# Altium footprint library 大风车.PcbLib: 9 footprints
Each footprint in its own frame and in the unit in brackets; x right, y up, seen from the top. Pads: shape width x height; smd on the part's side, far side on the other; paste and mask are expansions set on the pad; w line width, h text height; cw(c..) or ccw(c..) is an arc to the next point about the centre after c.
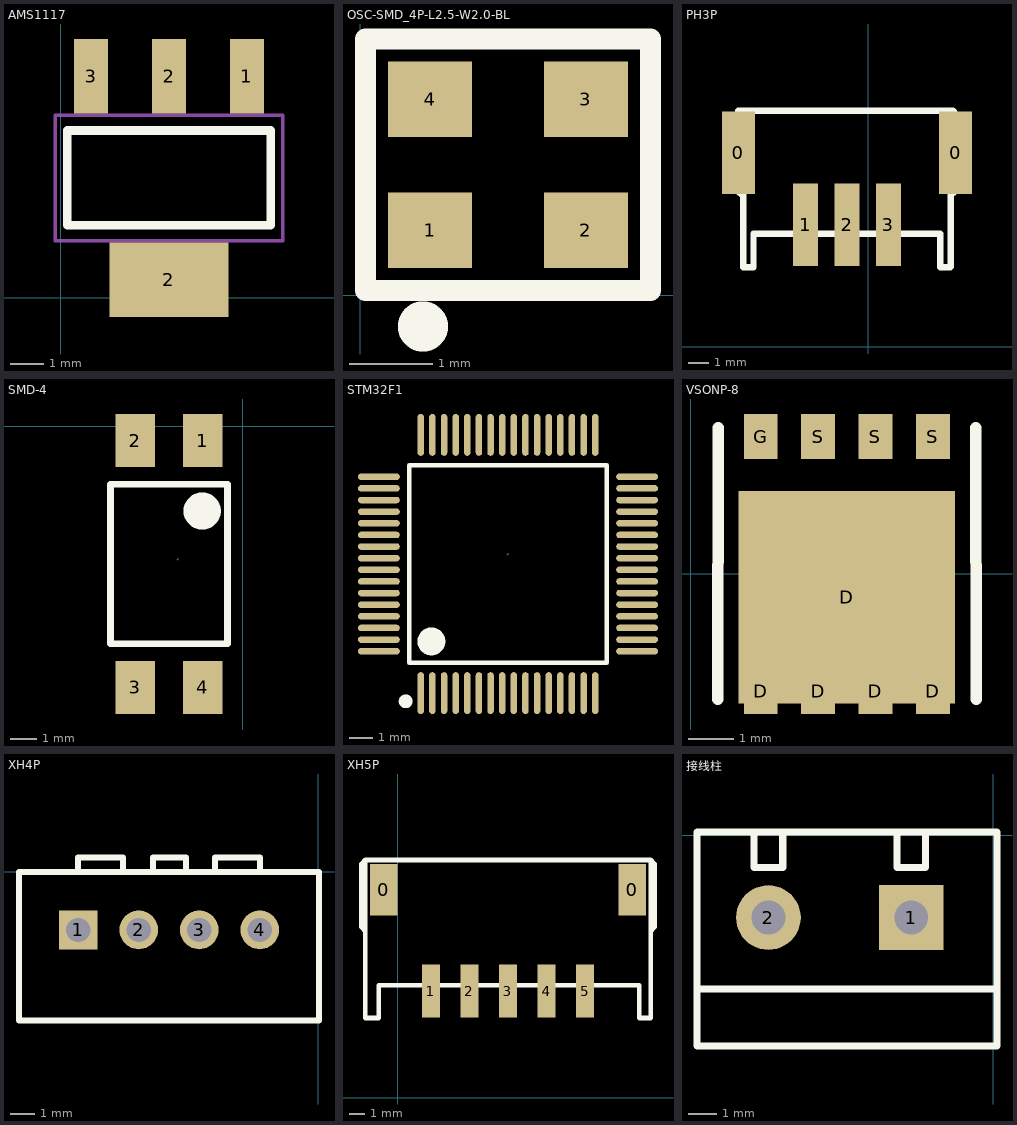
[diagram p0: the footprints below, top view; thin cyan lines are the x and y axes]

## AMS1117 [mm]
pads (4):
  rect 1x2.2 smd: 1(5.5,6.531) 2(3.2,6.531) 3(0.9,6.531)
  rect 3.5x2.2 smd: 2(3.2,0.531)
Top Overlay:
  lines w0.254: 0.2,2.131 0.2,4.931 6.2,4.931 6.2,2.131 0.2,2.131
Mechanical 13:
  lines w0.1: -0.15,1.681 -0.15,5.381 6.55,5.381 6.55,1.681 -0.15,1.681
3D body "TO-223.STEP": height 1.64, standoff -0.04, extent -0.042,0.041 6.443,7.021

## OSC-SMD_4P-L2.5-W2.0-BL [mm]
pads (4):
  rect 1x0.9 smd: 1(0.832,0.777) 2(2.692,0.777) 3(2.692,2.337) 4(0.832,2.337)
Top Overlay:
  lines w0.254: 0.062,0.057 0.062,3.057 3.462,3.057 3.462,0.057 0.062,0.057
  lines w0.3: 0.746,-0.221 ccw(c0.748,-0.371) 0.749,-0.221

## PH3P [mm]
pads (5):
  rect 1.6x4 smd: 0(-6.28,9.373) 0(4.216,9.373)
  rect 1.2x4 smd: 1(-3.032,5.893) 2(-1.032,5.893) 3(0.968,5.893)
Top Overlay:
  lines w0.305: -6.077,7.29 -6.28,7.493 -6.28,7.518 -6.28,11.405 -6.052,11.405 ; 3.988,7.315 4.166,7.493 4.166,11.328 4.089,11.405 3.988,11.405 ; -6.052,11.405 -6.052,3.835 -5.552,3.835 -5.552,5.456 3.48,5.456 3.48,3.835 3.962,3.835 3.988,3.861 3.988,11.405 ; -6.052,11.405 3.988,11.405
3D body "User Library-DS1066-04-3MSV6.STEP": height 6.5, standoff 0, extent -6.048,4.166 3.952,11.566

## SMD-4 [mm]
pads (4):
  rect 1.5x2 smd: 1(-1.502,-0.538) 2(-4.042,-0.538) 3(-4.042,-9.838) 4(-1.502,-9.838)
Top Overlay:
  lines w0.254: -4.972,-8.188 -0.572,-8.188 -0.572,-2.188 -4.972,-2.188 -4.972,-8.188
  lines w0.7: -1.172,-3.194 cw(c-1.522,-3.191) -1.172,-3.189
Mechanical 15:
  lines w0.003: -2.461,-5.022 -2.41,-4.971
3D body: height 3.7, standoff 0.2, extent -5.058,-8.412 -0.486,-2.062
3D body: height 0.8, standoff 0, extent -4.55,-1.3 -3.534,0.224
3D body: height 0.8, standoff 0, extent -2.01,-1.3 -0.994,0.224
3D body: height 0.8, standoff 0, extent -4.55,-10.698 -3.534,-9.174
3D body: height 0.8, standoff 0, extent -2.01,-10.698 -0.994,-9.174
3D body: height 3.2, standoff 0, extent -4.55,-1.3 -3.534,-0.792
3D body: height 3.2, standoff 0, extent -2.01,-1.3 -0.994,-0.792
3D body: height 3.2, standoff 0, extent -4.55,-9.682 -3.534,-9.174
3D body: height 3.2, standoff 0, extent -2.01,-9.682 -0.994,-9.174
3D body: height 3.2, standoff 2.4, extent -4.55,-9.682 -3.534,-8.412
3D body: height 3.2, standoff 2.4, extent -2.01,-9.682 -0.994,-8.412
3D body: height 3.2, standoff 2.4, extent -4.55,-2.062 -3.534,-0.792
3D body: height 3.2, standoff 2.4, extent -2.01,-2.062 -0.994,-0.792

## STM32F1 [mm]
pads (64):
  oval 0.28x1.796 smd: 1(28.352,12.709) 2(28.852,12.709) 3(29.352,12.709) 4(29.852,12.709) 5(30.352,12.709) 6(30.852,12.709) 7(31.352,12.709) 8(31.852,12.709) 9(32.352,12.709) 10(32.852,12.709) 11(33.352,12.709) 12(33.852,12.709) 13(34.352,12.709) 14(34.852,12.709) 15(35.352,12.709) 16(35.852,12.709) 33(35.852,23.809) 34(35.352,23.809) 35(34.852,23.809) 36(34.352,23.809) 37(33.852,23.809) 38(33.352,23.809) 39(32.852,23.809) 40(32.352,23.809) 41(31.852,23.809) 42(31.352,23.809) 43(30.852,23.809) 44(30.352,23.809) 45(29.852,23.809) 46(29.352,23.809) 47(28.852,23.809) 48(28.352,23.809)
  oval 1.796x0.28 smd: 17(37.652,14.509) 18(37.652,15.009) 19(37.652,15.509) 20(37.652,16.009) 21(37.652,16.509) 22(37.652,17.009) 23(37.652,17.509) 24(37.652,18.009) 25(37.652,18.509) 26(37.652,19.009) 27(37.652,19.509) 28(37.652,20.009) 29(37.652,20.509) 30(37.652,21.009) 31(37.652,21.509) 32(37.652,22.009) 49(26.552,22.009) 50(26.552,21.509) 51(26.552,21.009) 52(26.552,20.509) 53(26.552,20.009) 54(26.552,19.509) 55(26.552,19.009) 56(26.552,18.509) 57(26.552,18.009) 58(26.552,17.509) 59(26.552,17.009) 60(26.552,16.509) 61(26.552,16.009) 62(26.552,15.509) 63(26.552,15.009) 64(26.552,14.509)
Top Overlay:
  lines w0.2: 27.852,14.009 36.352,14.009 36.352,22.509 27.852,22.509 27.852,14.009
  lines w0.3: 27.702,12.508 ccw(c27.704,12.358) 27.705,12.508
  lines w0.6: 28.802,15.234 ccw(c28.805,14.934) 28.807,15.234
Mechanical 15:
  lines w0.003: 32.076,18.661 32.127,18.712

## VSONP-8 [mil]
pads (9):
  rect 29.5x39.37 smd: D(60.87,-102.33) D(110.87,-102.33) D(160.87,-102.33) D(210.87,-102.33) G(60.87,119.67) S(110.87,119.67) S(160.87,119.67) S(210.87,119.67)
  rect 189x185 smd: D(135.87,-20.32)
Top Overlay:
  lines w10: 23.67,-109.32 23.71,127.56 ; 248.47,-109.32 248.43,127.56

## XH4P [mm]
pads (4):
  rect 1.6x1.6 hole 1: 1(-9.913,-2.413)
  round 1.6 hole 1: 2(-7.413,-2.413) 3(-4.913,-2.413) 4(-2.413,-2.413)
Top Overlay:
  lines w0.254: -9.924,-0.013 -9.924,0.587 -8.063,0.587 -8.063,-0.013 ; -6.819,-0.013 -6.819,0.587 -5.463,0.587 -5.463,-0.013 ; -4.263,-0.013 -4.263,0.587 ; -4.263,0.587 -2.402,0.587 ; -4.263,0.587 -2.402,0.587 ; -2.402,0.587 -2.402,-0.013 -2.402,0.587 ; -12.363,-6.163 0.037,-6.163 0.037,-0.013 -12.363,-0.013 -12.363,-6.163

## XH5P [mm]
pads (7):
  rect 1.8x3.4 smd: 0(-0.916,13.705) 0(15.444,13.705)
  rect 1.2x3.5 smd: 1(2.184,7.036) 2(4.724,7.036) 3(7.264,7.036) 4(9.804,7.036) 5(12.344,7.036)
Top Overlay:
  lines w0.305: -2.134,10.973 -2.388,11.227 -2.388,15.418 -2.134,15.672 ; 16.662,10.973 16.916,11.227 16.916,15.418 16.662,15.672 ; -2.134,15.672 -2.134,5.258 -1.245,5.258 -1.245,7.417 15.9,7.417 15.9,6.147 15.9,5.258 16.662,5.258 16.662,15.672 ; -2.134,15.672 16.662,15.672

## 接线柱 [mm]
pads (2):
  rect 2.3x2.3 hole 1.2: 1(-2.921,-2.921)
  round 2.3 hole 1.2: 2(-8.001,-2.921)
Top Overlay:
  lines w0.254: -10.541,-5.461 0.127,-5.461 ; -8.509,0.127 -8.509,-1.143 -7.493,-1.143 -7.493,0.127 ; -3.429,0.127 -3.429,-1.143 -2.413,-1.143 -2.413,0.127 ; -10.541,-7.493 0.127,-7.493 0.127,0.127 -10.541,0.127 -10.541,-7.493
3D body "KF301-5.0.STEP": height 10.05, standoff -3.75, extent -5.424,-7.432 0.076,0.168
3D body "KF301-5.0.STEP": height 10.05, standoff -3.75, extent -10.424,-7.432 -4.924,0.168